# Altium schematic symbol library Enclosure.SchLib: 9 symbols
Pins are listed as number, name and electrical type; pins without a type are passive.

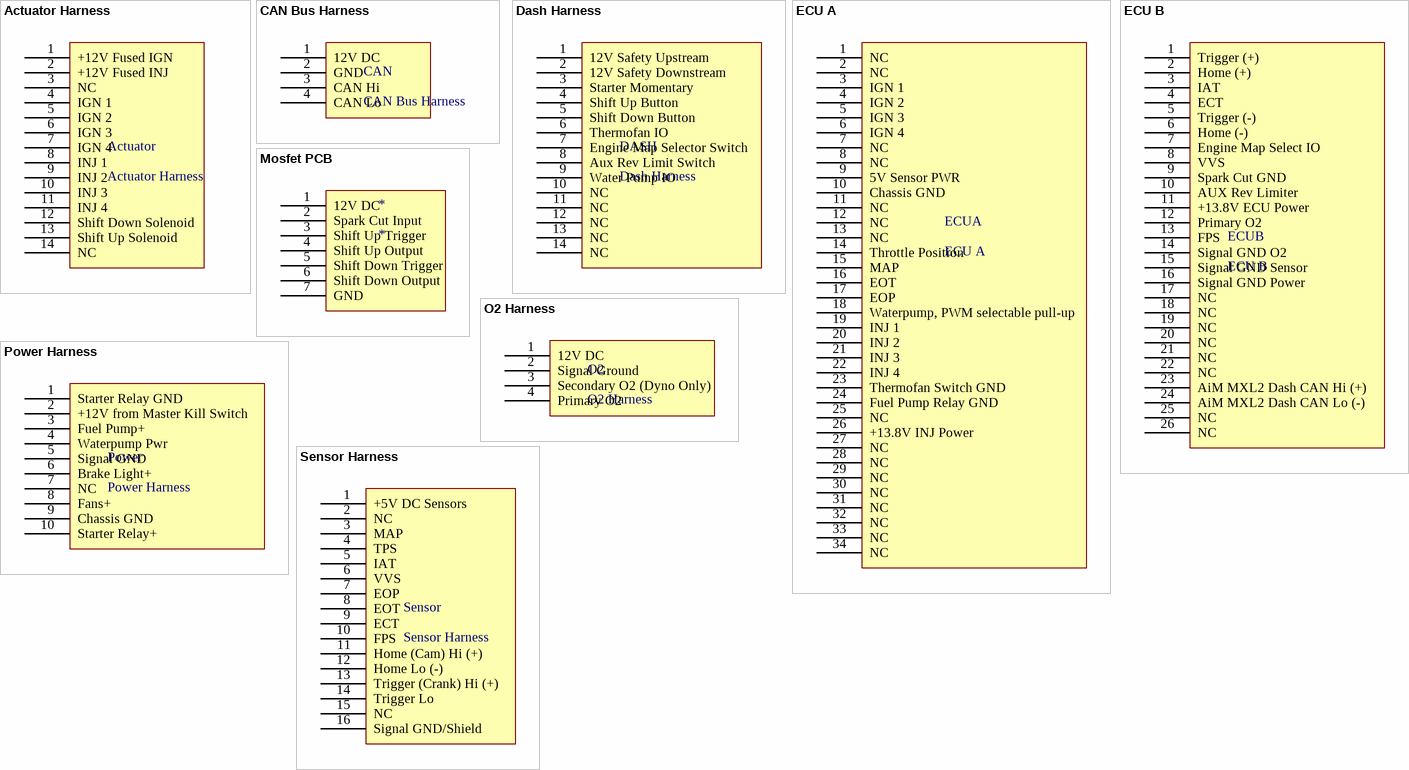
[diagram p0: symbols Actuator Harness to Sensor Harness]

## Actuator Harness
designator Actuator
pins: 1 +12V Fused IGN, 2 +12V Fused INJ, 3 NC, 4 IGN 1, 5 IGN 2, 6 IGN 3, 7 IGN 4, 8 INJ 1, 9 INJ 2, 10 INJ 3, 11 INJ 4, 12 Shift Down Solenoid, 13 Shift Up Solenoid, 14 NC

## CAN Bus Harness
designator CAN
pins: 1 12V DC, 2 GND, 3 CAN Hi, 4 CAN Lo

## Dash Harness
designator DASH
pins: 1 12V Safety Upstream, 2 12V Safety Downstream, 3 Starter Momentary, 4 Shift Up Button, 5 Shift Down Button, 6 Thermofan IO, 7 Engine Map Selector Switch, 8 Aux Rev Limit Switch, 9 Water Pump IO, 10 NC, 11 NC, 12 NC, 13 NC, 14 NC

## ECU A
designator ECUA
pins: 1 NC, 2 NC, 3 IGN 1, 4 IGN 2, 5 IGN 3, 6 IGN 4, 7 NC, 8 NC, 9 5V Sensor PWR, 10 Chassis GND, 11 NC, 12 NC, 13 NC, 14 Throttle Position, 15 MAP, 16 EOT, 17 EOP, 18 Waterpump, PWM selectable pull-up, 19 INJ 1, 20 INJ 2, 21 INJ 3, 22 INJ 4, 23 Thermofan Switch GND, 24 Fuel Pump Relay GND, 25 NC, 26 +13.8V INJ Power, 27 NC, 28 NC, 29 NC, 30 NC, 31 NC, 32 NC, 33 NC, 34 NC

## ECU B
designator ECUB
pins: 1 Trigger (+), 2 Home (+), 3 IAT, 4 ECT, 5 Trigger (-), 6 Home (-), 7 Engine Map Select IO, 8 VVS, 9 Spark Cut GND, 10 AUX Rev Limiter, 11 +13.8V ECU Power, 12 Primary O2, 13 FPS, 14 Signal GND O2, 15 Signal GND Sensor, 16 Signal GND Power, 17 NC, 18 NC, 19 NC, 20 NC, 21 NC, 22 NC, 23 AiM MXL2 Dash CAN Hi (+), 24 AiM MXL2 Dash CAN Lo (-), 25 NC, 26 NC

## Mosfet PCB
designator *
pins: 1 12V DC, 2 Spark Cut Input, 3 Shift Up Trigger, 4 Shift Up Output, 5 Shift Down Trigger, 6 Shift Down Output, 7 GND

## O2 Harness
designator O2
pins: 1 12V DC, 2 Signal Ground, 3 Secondary O2 (Dyno Only), 4 Primary O2

## Power Harness
designator Power
pins: 1 Starter Relay GND, 2 +12V from Master Kill Switch, 3 Fuel Pump+, 4 Waterpump Pwr, 5 Signal GND, 6 Brake Light+, 7 NC, 8 Fans+, 9 Chassis GND, 10 Starter Relay+

## Sensor Harness
designator Sensor
pins: 1 +5V DC Sensors, 2 NC, 3 MAP, 4 TPS, 5 IAT, 6 VVS, 7 EOP, 8 EOT, 9 ECT, 10 FPS, 11 Home (Cam) Hi (+), 12 Home Lo (-), 13 Trigger (Crank) Hi (+), 14 Trigger Lo, 15 NC, 16 Signal GND/Shield